# Altium footprint library Relay.PcbLib: 2 footprints
Each footprint in its own frame and in the unit in brackets; x right, y up, seen from the top. Pads: shape width x height; smd on the part's side, far side on the other; paste and mask are expansions set on the pad; w line width, h text height; cw(c..) or ccw(c..) is an arc to the next point about the centre after c.
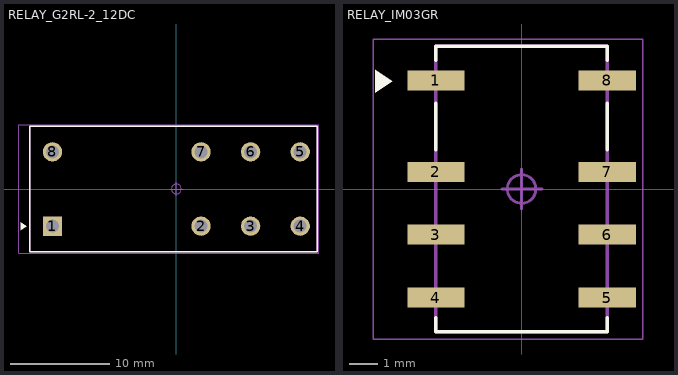
[diagram p0: the footprints below, top view; thin cyan lines are the x and y axes]

## RELAY_G2RL-2_12DC [mm]
pads (8):
  rect 1.95x1.95 hole 1.3: 1(-12.5,-3.75)
  round 1.95 hole 1.3: 2(2.5,-3.75) 3(7.5,-3.75) 4(12.5,-3.75) 5(12.5,3.75) 6(7.5,3.75) 7(2.5,3.75) 8(-12.5,3.75)
Top Overlay:
  region: -15.675,-3.35 -15.675,-4.15 -15.075,-3.75
  lines w0.127: -14.8,-6.35 14.2,-6.35 14.2,6.35 -14.8,6.35 -14.8,-6.35
Top Assembly:
  lines w0.127: -14.8,-6.35 14.2,-6.35 14.2,6.35 -14.8,6.35 -14.8,-6.35
Top Component Outline:
  lines w0.05: -15.875,-6.5 14.4,-6.5 14.4,6.5 -15.875,6.5 -15.875,-6.5
Top Component Center:
  circle w0.1: c0,0 r0.5
  lines w0.1: -0.686,0 0.711,0 ; -0.001,-0.706 -0.001,0.691
3D body "g2rl-2_12dc.stp": height 15.7, standoff -3.5, extent -14.8,-6.35 14.2,6.35

## RELAY_IM03GR [mm]
pads (8):
  rect 2x0.7 smd: 1(-3,3.8) 2(-3,0.6) 3(-3,-1.6) 4(-3,-3.8) 5(3,-3.8) 6(3,-1.6) 7(3,0.6) 8(3,3.8)
Top Overlay:
  region: -5.125,4.175 -5.125,3.375 -4.525,3.775
  lines w0.127: -3,-4.5 -3,-5 3,-5 3,-4.5 ; -3,1.37 -3,3 ; -3,4.5 -3,5 3,5 3,4.5 ; 3,1.37 3,3
Top Assembly:
  lines w0.127: -3,-5 3,-5 3,5 -3,5 -3,-5
Top Component Outline:
  lines w0.05: -5.2,-5.25 4.25,-5.25 4.25,5.25 -5.2,5.25 -5.2,-5.25
Top Component Center:
  circle w0.1: c0,0 r0.5
  lines w0.1: -0.686,0 0.711,0 ; -0.001,-0.706 -0.001,0.691
3D body "step_temp.STEP": height 5.85, standoff 0, extent -3.75,-5 3.75,5